# Altium schematic symbol library Rectifiers 05_10_18.SchLib: 1 symbol
Pins are listed as number, name and electrical type; pins without a type are passive.

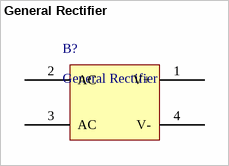
[diagram p0: symbol General Rectifier]

## General Rectifier
designator B?
pins: 1 V+, 2 AC, 3 AC, 4 V-